# EAGLE library part NRF24L01+-SMDPH (library NRF24L01+-Pinheader)
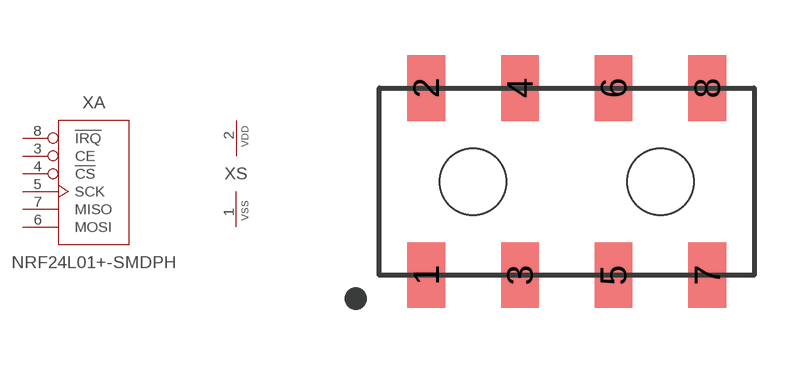
[diagram p1: symbol with the pads of PINHEAD2X4; footprint PINHEAD2X4]

Designator prefix X; gates A=NRF24L01+ S=SUPPLY

## NRF24L01+-SMDPH (MFG: Harwin; MPN: M20-7810445)  [PINHEAD2X4]
1  S:VSS  pwr
2  S:VDD  pwr
3  A:CE  in
4  A:!CS  in
5  A:SCK  in
6  A:MOSI  in
7  A:MISO  out
8  A:!IRQ  out

## Footprint PINHEAD2X4 (pad centres in mm)
smd 1.02 x 1.78: 1 -3.81,-2.54; 2 -3.81,2.54; 3 -1.27,-2.54; 4 -1.27,2.54; 5 1.27,-2.54; 6 1.27,2.54; 7 3.81,-2.54; 8 3.81,2.54
hole 1.8 at -2.54,0
hole 1.8 at 2.54,0